# Altium schematic symbol library SL_Relays.SchLib: 4 symbols
Pins are listed as number, name and electrical type; pins without a type are passive.

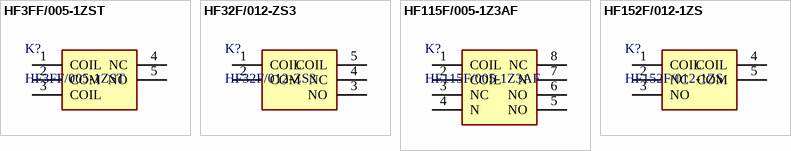
[diagram p0: symbols HF3FF/005-1ZST to HF152F/012-1ZS]

## HF3FF/005-1ZST
designator K?
1C, Coil: 5V, 70mA, Load: 250VAC, 10A; Manufacturer_Name: Hongfa; Height: 15mm; Manufacturer_Part_Number: HF3FF/005-1ZST
footprint HF3FF0051ZST
pins: 1 COIL, 2 COM, 3 COIL, 4 NC, 5 NO

## HF32F/012-ZS3
designator K?
1C, Coil: 12V, 37mA, Load: 250VAC, 3A; Manufacturer_Name: Hongfa; Datasheet Link: https://source.hongfa.com//Api/DownloadPdf/265; Height: 15.9mm; Manufacturer_Part_Number: HF32F/012-ZS3
footprint HF32F012ZS3
pins: 1 COIL, 2 COM, 3 NO, 4 NC, 5 COIL

## HF115F/005-1Z3AF
designator K?
1C, Coil: 5V, 81mA, Load: 250VAC, 16A; Manufacturer_Name: Hongfa; Datasheet Link: https://static.chipdip.ru/lib2/a/589/DOC068589272.pdf; Height: 15.7mm; Manufacturer_Part_Number: HF115F/005-1Z3AF
footprint HF115F_8_16A
pins: 1 COIL, 2 COIL, 3 NC, 4 N, 5 NO, 6 NO, 7 N, 8 NC

## HF152F/012-1ZS
designator K?
1C, Coil: 12V, 30mA, Load: 250VAC, 16A; Manufacturer_Name: Hongfa; Datasheet Link: https://static.chipdip.ru/lib/798/DOC059798880.pdf; Height: 20.6mm; Manufacturer_Part_Number: HF152F/012-1ZS
footprint HF152F
pins: 1 COIL, 2 NC, 3 NO, 4 COIL, 5 COM